# Altium schematic symbol library CKN10361CT-ND.SchLib: 2 symbols
Pins are listed as number, name and electrical type; pins without a type are passive.

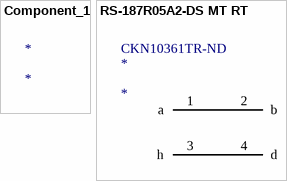
[diagram p0: symbols Component_1 to RS-187R05A2-DS MT RT]

## Component_1
designator *

## RS-187R05A2-DS MT RT
designator *  Supplier Part Number 1: CKN10361TR-ND
SWITCH TACTILE SPST-NO 0.05A 12V; Manufacturer: C&K Components; Manufacturer Part Number: RS-187R05A2-DS MT RT; Switch Function: Off-Mom; Contact Rating @ Voltage: 0.05A @ 12VDC; Actuator Type: Standard; Actuator Height off PCB, from Pins: 1.60mm; Actuator Orientation: Top Actuated; Outline: 5.20mm x 5.20mm; Illumination: Non-Illuminated; Operating Force: 160gf; Switch Travel: 0.25mm; Mechanical Life: 50,000 Cycles; Supplier 1: Digi-Key; RoHS: RoHS Compliant; Category: Switches; Stock 1: 0; Pricing 1: 36000=0.224 (USD); Packaging: Tape & Reel (TR); Circuit: SPST-NO; Mounting Type: Surface Mount; Termination Style: Gull Wing; Illumination Voltage (Nominal): -; Illumination Type, Color: -; Ingress Protection: -; Features: -; Actuator Material: -; Operating Temperature: -; ComponentLink1URL: http://www.ck-components.com/83942/rs_18dec13.pdf/; ComponentLink1Description: http://www.ck-components.com/83942/rs_18dec13.pdf/
pins: 1 a, 2 b, 3 h, 4 d